# Altium footprint library CAPRB750W60L700T600H1100.PcbLib: 1 footprints
Each footprint in its own frame and in the unit in brackets; x right, y up, seen from the top. Pads: shape width x height; smd on the part's side, far side on the other; paste and mask are expansions set on the pad; w line width, h text height; cw(c..) or ccw(c..) is an arc to the next point about the centre after c.
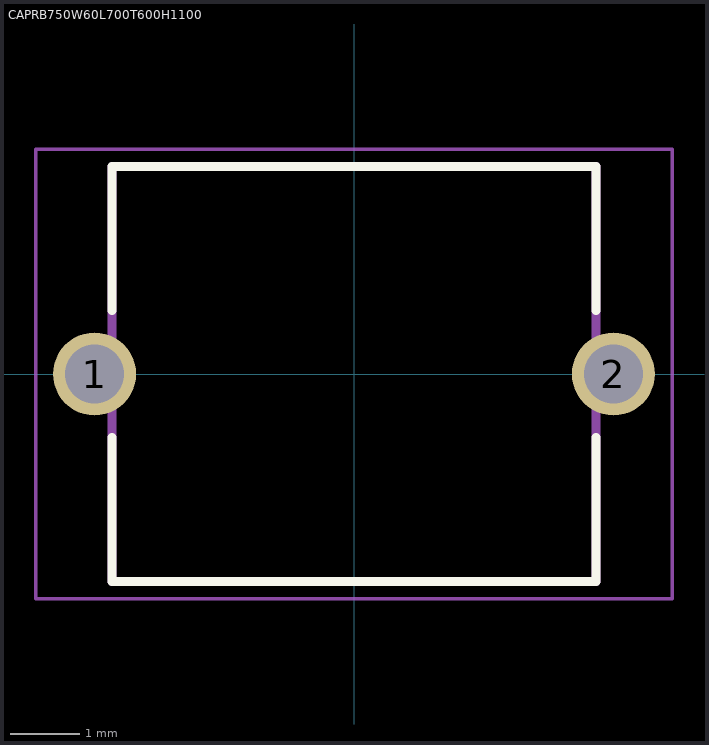
[diagram p0: the footprint, top view; thin cyan lines are the x and y axes]

## CAPRB750W60L700T600H1100 [mm]
pads (2):
  round 1.2 hole 0.85 mask+0.102: 1(-3.75,0) 2(3.75,0)
Top Overlay:
  lines w0.127: -3.5,-0.92 -3.5,-3 3.5,-3 3.5,-0.92 ; -3.5,0.92 -3.5,3 3.5,3 3.5,0.92
Assembly Top:
  lines w0.127: -3.5,-3 -3.5,3 3.5,3 3.5,-3 -3.5,-3
Courtyard Top:
  lines w0.05: -4.6,-3.25 -4.6,3.25 4.6,3.25 4.6,-3.25 -4.6,-3.25
3D body "CK45-B3FD471KYGNA.STEP": height 11, standoff -21, extent -4.377,-3.5 4.123,3.5